# EAGLE library part HR911105A (library DSPR)
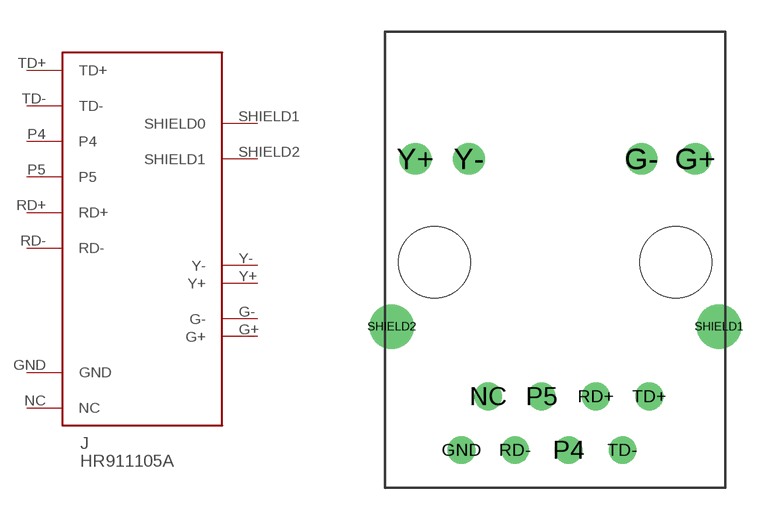
[diagram p13: symbol with the pads of RJ45_MAGJACK; footprint RJ45_MAGJACK]

Designator prefix J

## HR911105A  [RJ45_MAGJACK]
G+  G+
G-  G-
GND  GND
NC  NC
P4  P4
P5  P5
RD+  RD+
RD-  RD-
SHIELD1  SHIELD0
SHIELD2  SHIELD1
TD+  TD+
TD-  TD-
Y+  Y+
Y-  Y-

## Footprint RJ45_MAGJACK (pad centres in mm)
drill 1: G+ 6.625,4.9; G- 4.085,4.9; Y+ -6.625,4.9; Y- -4.085,4.9
drill 0.8: GND -4.44,-8.89; NC -3.17,-6.35; P4 0.64,-8.89; P5 -0.64,-6.35; RD+ 1.92,-6.35; RD- -1.9,-8.89; TD+ 4.45,-6.35; TD- 3.18,-8.89
drill 1.4: SHIELD1 7.745,-3.05; SHIELD2 -7.745,-3.05
hole 3.4 at 5.715,0
hole 3.4 at -5.715,0